# Altium schematic symbol library OPA277.SchLib: 1 symbol
Pins are listed as number, name and electrical type; pins without a type are passive.

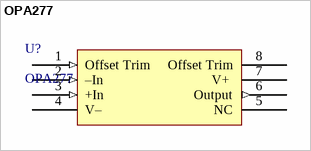
[diagram p0: symbol OPA277]

## OPA277
designator U?
OPAx277 series operational amplifiers operate from / ±2-V to ±18-V; Ultralow Offset Voltage: 10 μV; Ultralow Drift: ±0.1 μV/°C; High Open-Loop Gain: 134 dB; High Common-Mode Rejection: 140 dB; High Power Supply Rejection: 130 dB; Low Bias Current: 1-nA maximum; Wide Supply Range: ±2 V to ±18 V; Low Quiescent Current: 800 μA/amplifier; ComponentLink1Description: Datasheet; ComponentLink1URL: http://www.ti.com/lit/ds/symlink/opa277.pdf
footprint SOP8
pins: 1 Offset Trim (in) "Input offset voltage trim (leave floating if not used)", 2 –In (in) "Inverting input", 3 +In (in) "Noninverting input", 4 V– "Negative (lowest) power supply", 5 NC "No internal connection (can be left floating)", 6 Output (out), 7 V+  "Positive (highest) power supply", 8 Offset Trim "Input offset voltage trim (leave floating if not used)"